# Altium schematic symbol library 691363110003.SchLib: 1 symbol
Pins are listed as number, name and electrical type; pins without a type are passive.

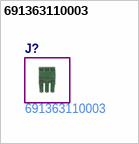
[diagram p0: symbol 691363110003]

## 691363110003
designator J?  Manufacturer Part Number: 691363110003  (hidden comment: *)